# EAGLE library part BQ24171 (library ruark2)
Charger IC Lithium Ion/Polymer 24-VQFN (5.5x3.5)
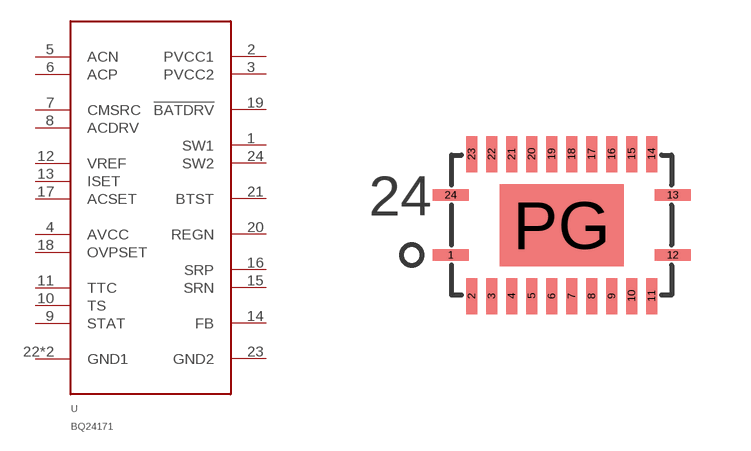
[diagram p113: symbol with the pads of P-VQFN-N24; footprint P-VQFN-N24]

Designator prefix U

## BQ24171 (PARTNO: 296-41205-1-ND)  [P-VQFN-N24]
1  SW1
2  PVCC1
3  PVCC2
4  AVCC
5  ACN
6  ACP
7  CMSRC
8  ACDRV
9  STAT
10  TS
11  TTC
12  VREF
13  ISET
14  FB
15  SRN
16  SRP
17  ACSET
18  OVPSET
19  !BATDRV
20  REGN
21  BTST
22  GND1
23  GND2
24  SW2
PG  GND1

## Footprint P-VQFN-N24 (pad centres in mm)
smd 0.9 x 0.28: 1 -2.775,-0.75; 12 2.775,-0.75; 13 2.775,0.75; 24 -2.775,0.75
smd 0.28 x 0.9: 2 -2.25,-1.775; 3 -1.75,-1.775; 4 -1.25,-1.775; 5 -0.75,-1.775; 6 -0.25,-1.775; 7 0.25,-1.775; 8 0.75,-1.775; 9 1.25,-1.775; 10 1.75,-1.775; 11 2.25,-1.775; 14 2.25,1.775; 15 1.75,1.775; 16 1.25,1.775; 17 0.75,1.775; 18 0.25,1.775; 19 -0.25,1.775; 20 -0.75,1.775; 21 -1.25,1.775; 22 -1.75,1.775; 23 -2.25,1.775
smd 3.1 x 2.05: PG 0,0